# Altium footprint library PCC.PcbLib: 7 footprints
Each footprint in its own frame and in the unit in brackets; x right, y up, seen from the top. Pads: shape width x height; smd on the part's side, far side on the other; paste and mask are expansions set on the pad; w line width, h text height; cw(c..) or ccw(c..) is an arc to the next point about the centre after c.
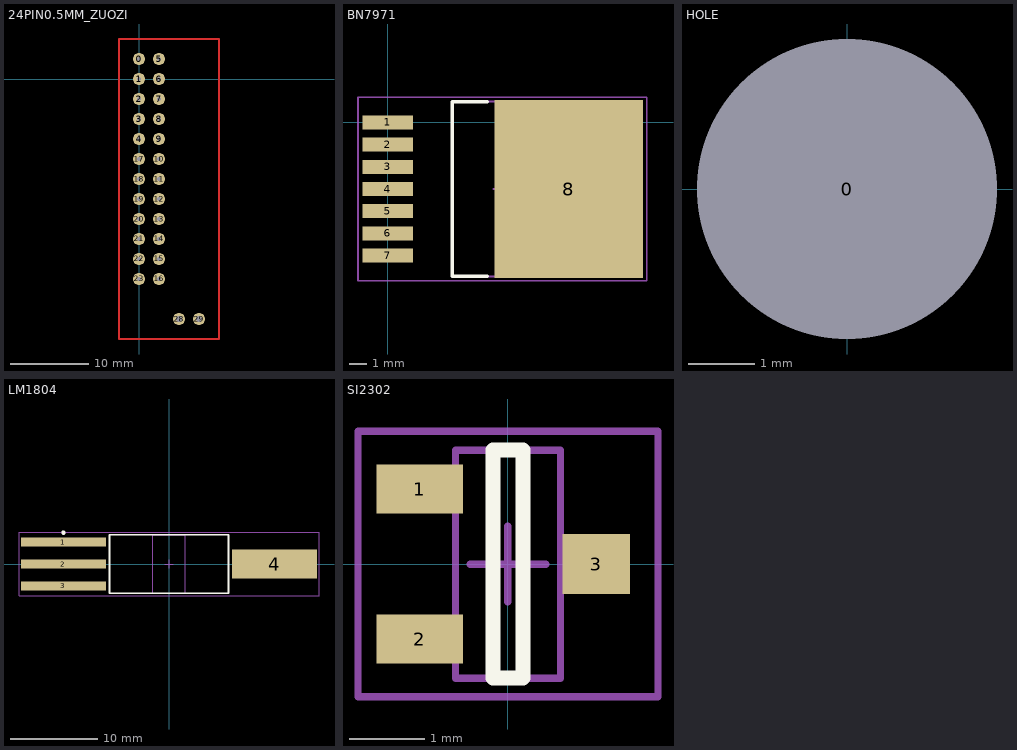
[diagram p0: the footprints below, top view; thin cyan lines are the x and y axes]

## 24PIN0.5MM_ZUOZI [mil]
pads (26):
  round 60 hole 19.68: 0(0,100) 1(0,0) 2(0,-100) 3(0,-200) 4(0,-300) 5(100,100) 6(100,0) 7(100,-100) 8(100,-200) 9(100,-300) 10(100,-400) 11(100,-500) 12(100,-600) 13(100,-700) 14(100,-800) 15(100,-900) 16(100,-1000) 17(0,-400) 18(0,-500) 19(0,-600) 20(0,-700) 21(0,-800) 22(0,-900) 23(0,-1000)
  round 60 hole 30: 28(200,-1200) 29(300,-1200)
Top Layer:
  lines w10: -100,-1300 400,-1300 400,200 -100,200 -100,-1300

## BN7971 [mm] "D2-PAK, 7-Pads, Body 9.3x10.0mm (max), IPC Medium Density"
height 4.4
pads (8):
  rect 2.9x0.8 smd: 1(0,0) 2(0,-1.27) 3(0,-2.54) 4(0,-3.81) 5(0,-5.08) 6(0,-6.35) 7(0,-7.62)
  rect 8.5x10.2 smd: 8(10.35,-3.81)
Top Overlay:
  lines w0.2: 5.7,-8.81 3.7,-8.81 3.7,1.19 5.7,1.19
Mechanical 13:
  lines w0.1: 3.7,-8.81 3.7,1.19 12.95,1.19 12.95,-8.81 3.7,-8.81
Mechanical 15:
  lines w0.1: 6.05,-3.81 7.05,-3.81 ; 6.55,-4.31 6.55,-3.31 ; -1.7,-9.06 -1.7,1.44 14.8,1.44 14.8,-9.06 -1.7,-9.06
3D body: height 4.4, standoff 0.5, extent 3.7,-8.81 12.95,1.19

## FT232RL [mil]

## HOLE [mil]
pads (1):
  round 60 hole 177.17: 0(0,0)

## K60 [mil]

## LM1804 [mm] "SOT223, 4-Leads, Body 6.7x32.9mm (max), Pitch 2.50mm, IPC Medium Density"
height 1.8
pads (4):
  rect 9.7x1.05 smd: 1(-12.05,2.5) 2(-12.05,0) 3(-12.05,-2.5)
  rect 9.7x3.3 smd: 4(12.05,0)
Top Overlay:
  circle w0.25: c-12.05,3.575 r0.125
  lines w0.2: -6.8,-3.35 6.8,-3.35 6.8,3.35 -6.8,3.35 -6.8,-3.35
Mechanical 13:
  lines w0.1: -1.85,-3.35 1.85,-3.35 1.85,3.35 -1.85,3.35 -1.85,-3.35
Mechanical 15:
  lines w0.1: -0.5,0 0.5,0 ; 0,-0.5 0,0.5 ; -17.125,-3.6 17.125,-3.6 17.125,3.6 -17.125,3.6 -17.125,-3.6
3D body: height 1.8, standoff 0.02, extent -1.85,-3.35 1.85,3.35

## SI2302 [mm] "SOT223, 3-Leads, Body 3.0x2.6mm (max), Pitch 2.00mm, IPC Medium Density"
height 1
pads (3):
  rect 1.15x0.65 smd: 1(-1.175,1) 2(-1.175,-1)
  rect 0.9x0.8 smd: 3(1.175,0)
Top Overlay:
  lines w0.2: -0.2,-1.52 -0.2,1.52 0.2,1.52 0.2,-1.52 -0.2,-1.52
Mechanical 13:
  lines w0.1: -0.7,-1.52 -0.7,1.52 0.7,1.52 0.7,-1.52 -0.7,-1.52
Mechanical 15:
  lines w0.1: -0.5,0 0.5,0 ; 0,-0.5 0,0.5 ; -2,-1.77 -2,1.77 2,1.77 2,-1.77 -2,-1.77
3D body: height 1, standoff 0.5, extent -0.7,-1.52 0.7,1.52